# EAGLE library part SH_EK_TM4C1294XL_HALF (library SH_EK_TM4c1294XL)
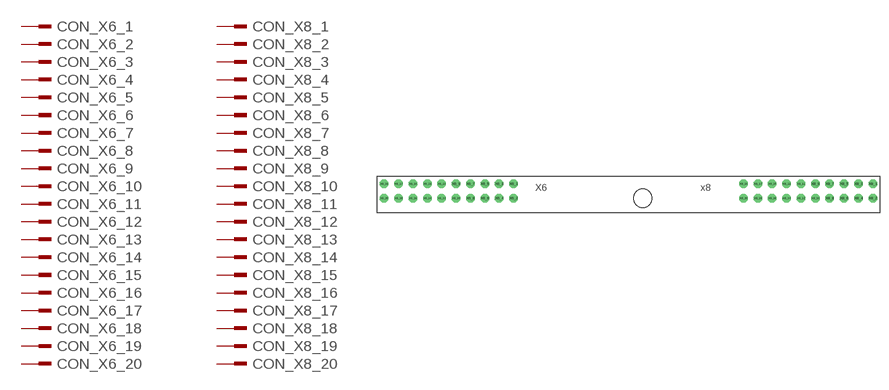
[diagram p1: symbol with the pads of EK-TM4C1294-HALF; footprint EK-TM4C1294-HALF]

Designator prefix CON; gates _X6_1=SYM_EK_TM4C1294XL_HALF _X6_2=SYM_EK_TM4C1294XL_HALF _X6_3=SYM_EK_TM4C1294XL_HALF _X6_4=SYM_EK_TM4C1294XL_HALF _X6_5=SYM_EK_TM4C1294XL_HALF _X6_6=SYM_EK_TM4C1294XL_HALF _X6_7=SYM_EK_TM4C1294XL_HALF _X6_8=SYM_EK_TM4C1294XL_HALF _X6_9=SYM_EK_TM4C1294XL_HALF _X6_10=SYM_EK_TM4C1294XL_HALF _X6_11=SYM_EK_TM4C1294XL_HALF _X6_12=SYM_EK_TM4C1294XL_HALF _X6_13=SYM_EK_TM4C1294XL_HALF _X6_14=SYM_EK_TM4C1294XL_HALF _X6_15=SYM_EK_TM4C1294XL_HALF _X6_16=SYM_EK_TM4C1294XL_HALF _X6_17=SYM_EK_TM4C1294XL_HALF _X6_18=SYM_EK_TM4C1294XL_HALF _X6_19=SYM_EK_TM4C1294XL_HALF _X6_20=SYM_EK_TM4C1294XL_HALF _X8_1=SYM_EK_TM4C1294XL_HALF _X8_2=SYM_EK_TM4C1294XL_HALF _X8_3=SYM_EK_TM4C1294XL_HALF _X8_4=SYM_EK_TM4C1294XL_HALF _X8_5=SYM_EK_TM4C1294XL_HALF _X8_6=SYM_EK_TM4C1294XL_HALF _X8_7=SYM_EK_TM4C1294XL_HALF _X8_8=SYM_EK_TM4C1294XL_HALF _X8_9=SYM_EK_TM4C1294XL_HALF _X8_10=SYM_EK_TM4C1294XL_HALF _X8_11=SYM_EK_TM4C1294XL_HALF _X8_12=SYM_EK_TM4C1294XL_HALF _X8_13=SYM_EK_TM4C1294XL_HALF _X8_14=SYM_EK_TM4C1294XL_HALF _X8_15=SYM_EK_TM4C1294XL_HALF _X8_16=SYM_EK_TM4C1294XL_HALF _X8_17=SYM_EK_TM4C1294XL_HALF _X8_18=SYM_EK_TM4C1294XL_HALF _X8_19=SYM_EK_TM4C1294XL_HALF _X8_20=SYM_EK_TM4C1294XL_HALF

## SH_EK_TM4C1294XL_HALF  [EK-TM4C1294-HALF]
X6_1  _X6_1:1  pas
X6_2  _X6_2:1  pas
X6_3  _X6_3:1  pas
X6_4  _X6_4:1  pas
X6_5  _X6_5:1  pas
X6_6  _X6_6:1  pas
X6_7  _X6_7:1  pas
X6_8  _X6_8:1  pas
X6_9  _X6_9:1  pas
X6_10  _X6_10:1  pas
X6_11  _X6_11:1  pas
X6_12  _X6_12:1  pas
X6_13  _X6_13:1  pas
X6_14  _X6_14:1  pas
X6_15  _X6_15:1  pas
X6_16  _X6_16:1  pas
X6_17  _X6_17:1  pas
X6_18  _X6_18:1  pas
X6_19  _X6_19:1  pas
X6_20  _X6_20:1  pas
X8_1  _X8_1:1  pas
X8_2  _X8_2:1  pas
X8_3  _X8_3:1  pas
X8_4  _X8_4:1  pas
X8_5  _X8_5:1  pas
X8_6  _X8_6:1  pas
X8_7  _X8_7:1  pas
X8_8  _X8_8:1  pas
X8_9  _X8_9:1  pas
X8_10  _X8_10:1  pas
X8_11  _X8_11:1  pas
X8_12  _X8_12:1  pas
X8_13  _X8_13:1  pas
X8_14  _X8_14:1  pas
X8_15  _X8_15:1  pas
X8_16  _X8_16:1  pas
X8_17  _X8_17:1  pas
X8_18  _X8_18:1  pas
X8_19  _X8_19:1  pas
X8_20  _X8_20:1  pas

## Footprint EK-TM4C1294-HALF (pad centres in mm)
drill 1 pad 1.5 octagon: X6_1 -20.32,1.27; X6_2 -20.32,-1.27; X6_3 -22.86,1.27; X6_4 -22.86,-1.27; X6_5 -25.4,1.27; X6_6 -25.4,-1.27; X6_7 -27.94,1.27; X6_8 -27.94,-1.27; X6_9 -30.48,1.27; X6_10 -30.48,-1.27; X6_11 -33.02,1.27; X6_12 -33.02,-1.27; X6_13 -35.56,1.27; X6_14 -35.56,-1.27; X6_15 -38.1,1.27; X6_16 -38.1,-1.27; X6_17 -40.64,1.27; X6_18 -40.64,-1.27; X6_19 -43.18,1.27; X6_20 -43.18,-1.27; X8_1 43.18,1.27; X8_2 43.18,-1.27; X8_3 40.64,1.27; X8_4 40.64,-1.27; X8_5 38.1,1.27; X8_6 38.1,-1.27; X8_7 35.56,1.27; X8_8 35.56,-1.27; X8_9 33.02,1.27; X8_10 33.02,-1.27; X8_11 30.48,1.27; X8_12 30.48,-1.27; X8_13 27.94,1.27; X8_14 27.94,-1.27; X8_15 25.4,1.27; X8_16 25.4,-1.27; X8_17 22.86,1.27; X8_18 22.86,-1.27; X8_19 20.32,1.27; X8_20 20.32,-1.27
hole 3.2 at 2.54,-1.27